# EAGLE library part ED2235 (library machine_science)
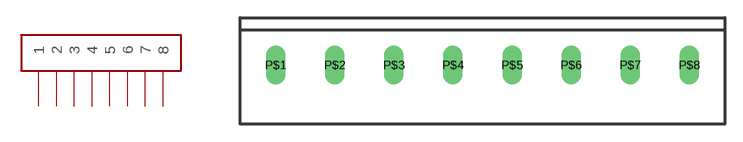
[diagram p7: symbol with the pads of ED_100; footprint ED_100]

Designator prefix J

## ED2235  [ED_100]
P$1  1
P$2  2
P$3  3
P$4  4
P$5  5
P$6  6
P$7  7
P$8  8

## Footprint ED_100 (pad centres in mm)
drill 1.1 long: P$1 -17.5,0; P$2 -12.5,0; P$3 -7.5,0; P$4 -2.5,0; P$5 2.5,0; P$6 7.5,0; P$7 12.5,0; P$8 17.5,0